# EAGLE library part D-ESD-14P (library Discrete-new)
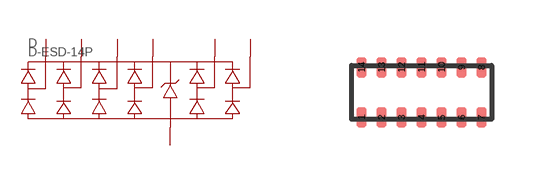
[diagram p0: symbol with the pads of UDFN14-0.5-3.5X1.35X0.5MM; footprint UDFN14-0.5-3.5X1.35X0.5MM]

Designator prefix D

## D-ESD-14P  [UDFN14-0.5-3.5X1.35X0.5MM]
1  14
2  13
3  12
4  11
5  10
6  9
7  8
8  8
9  9
10  10
11  11
12  12
13  13
14  14

## Footprint UDFN14-0.5-3.5X1.35X0.5MM (pad centres in mm)
smd 0.25 x 0.5: 1 -1.5,-0.625; 2 -1,-0.625; 3 -0.5,-0.625; 4 0,-0.625; 5 0.5,-0.625; 6 1,-0.625; 7 1.5,-0.625; 8 1.5,0.625; 9 1,0.625; 10 0.5,0.625; 11 0,0.625; 12 -0.5,0.625; 13 -1,0.625; 14 -1.5,0.625